# Altium footprint library XYZ-IN.PcbLib: 1 footprints
Each footprint in its own frame and in the unit in brackets; x right, y up, seen from the top. Pads: shape width x height; smd on the part's side, far side on the other; paste and mask are expansions set on the pad; w line width, h text height; cw(c..) or ccw(c..) is an arc to the next point about the centre after c.
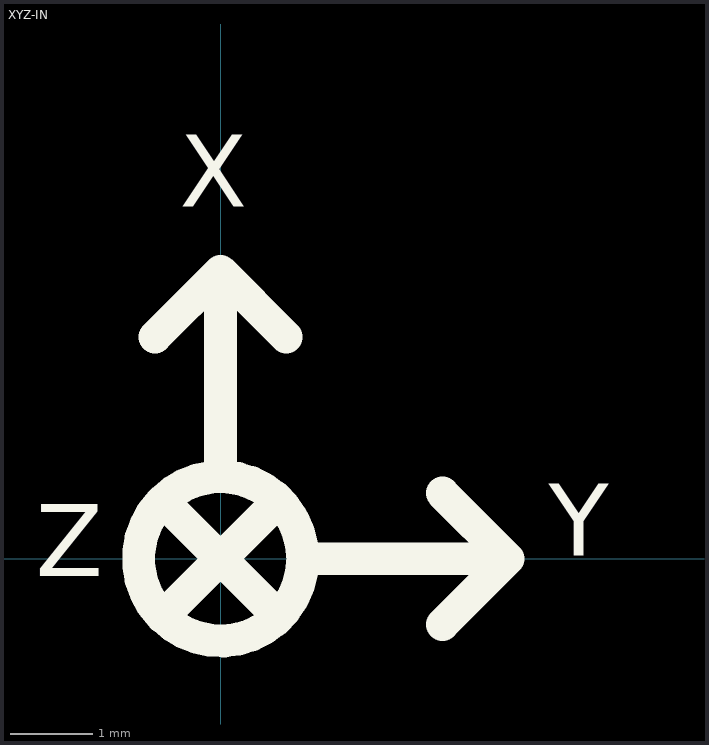
[diagram p0: the footprint, top view; thin cyan lines are the x and y axes]

## XYZ-IN [mm]
Top Overlay:
  circle w0.4: c0,0 r1
  lines w0.4: -0.8,2.7 0,3.5 ; -0.707,-0.707 0.707,0.707 ; -0.707,0.707 0.707,-0.707 ; 0,1.025 0,3.5 ; 0.8,2.7 0,3.5 ; 1,0 3.5,0 ; 2.7,-0.8 3.5,0 ; 2.7,0.8 3.5,0
  text "Z" at -2.25,-0.5 h1.5
  text "Y" at 3.999,-0.25 h1.5
  text "X" at -0.5,4 h1.5